# EAGLE library part DF2-L2-DC* (library relay)
HIGHLY SENSITIVE DIP MINIATURE RELAY NAiS 2 coil latching Set/Reset Source: http://www.mew-europe.com/.. en_ds_61002_0000.pdf
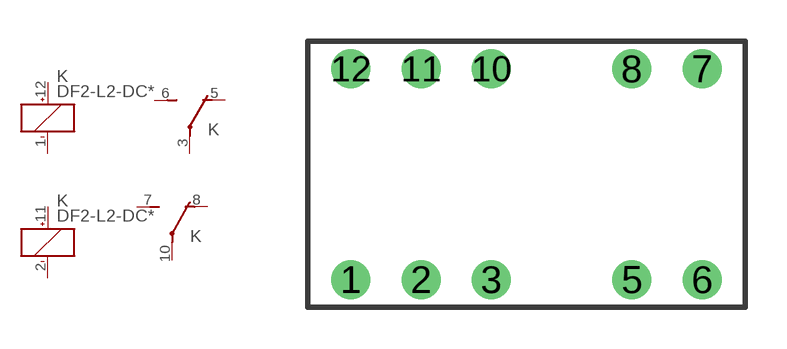
[diagram p51: symbol with the pads of DF2-L2; footprint DF2-L2]

Designator prefix K; gates S=K+- R=K+- 3=U 4=U

## DF2-L2-DC1.5V (OC_FARNELL: unknown; OC_NEWARK: unknown), DF2-L2-DC3V (OC_FARNELL: unknown; OC_NEWARK: unknown), DF2-L2-DC5V (OC_FARNELL: unknown; OC_NEWARK: unknown), DF2-L2-DC6V (OC_FARNELL: unknown; OC_NEWARK: unknown), DF2-L2-DC9V (OC_FARNELL: unknown; OC_NEWARK: unknown), DF2-L2-DC12V (OC_FARNELL: unknown; OC_NEWARK: unknown), DF2-L2-DC24 (OC_FARNELL: unknown; OC_NEWARK: unknown)  [DF2-L2]
1  S:-  pas
2  R:-  pas
3  3:P  pas
5  3:O  pas
6  3:S  pas
7  4:S  pas
8  4:O  pas
10  4:P  pas
11  R:+  pas
12  S:+  pas

## Footprint DF2-L2 (pad centres in mm)
HIGHLY SENSITIVE DIP MINIATURE RELAY 2 coil Source: http://www.mew-europe.com/.. en_ds_61002_0000.pdf
drill 0.9 round: 1 -6.35,-3.81; 2 -3.81,-3.81; 3 -1.27,-3.81; 5 3.81,-3.81; 6 6.35,-3.81; 7 6.35,3.81; 8 3.81,3.81; 10 -1.27,3.81; 11 -3.81,3.81; 12 -6.35,3.81